# Altium integrated library 104224-0820.IntLib: 1 symbol
Pins are listed as number, name and electrical type; pins without a type are passive.

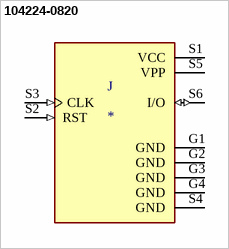
[diagram p0: symbol 104224-0820]

## 104224-0820
designator J
6 Position Card Connector NANO SIM Surface Mount, Right Angle Gold; MP: 104224-0820; MF: Molex; Price: None; Value: *; Package: None; SnapEDA_Link: https://www.snapeda.com/parts/104224-0820/Molex/view-part/1365424/?ref=snap; Availability: Unavailable
footprint MOLEX_104224-0820
pins: G1 GND (power), G2 GND (power), G3 GND (power), G4 GND (power), S1 VCC (power), S2 RST (in), S3 CLK (in), S4 GND (power), S5 VPP (power), S6 I/O (io)